# Altium footprint library con-phoenix-508.PCBLIB: 118 footprints (part 6 of 8)
Each footprint in its own frame and in the unit in brackets; x right, y up, seen from the top. Pads: shape width x height; smd on the part's side, far side on the other; paste and mask are expansions set on the pad; w line width, h text height; cw(c..) or ccw(c..) is an arc to the next point about the centre after c.
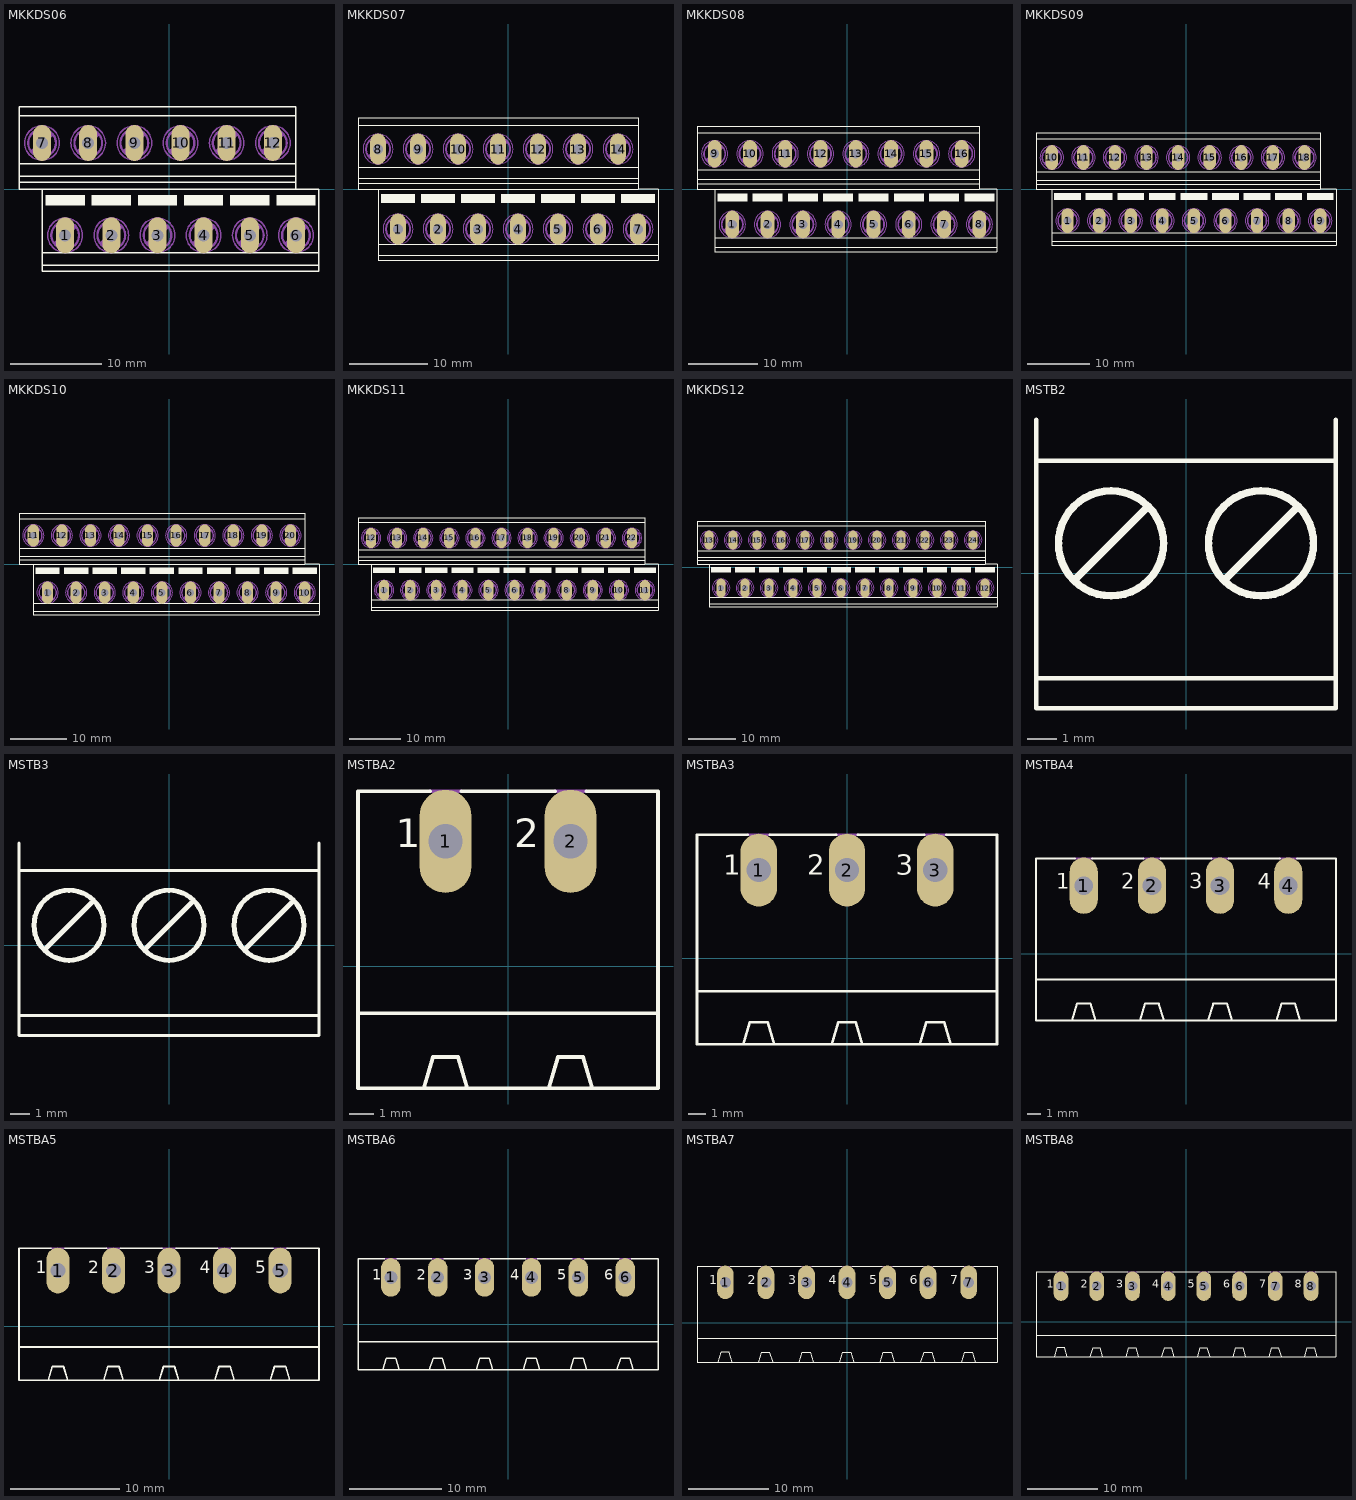
[diagram p5: the footprints below, top view; thin cyan lines are the x and y axes]

## MKKDS06 [mil]
pads (12):
  oval 78x156 hole 52: 1(-450,-200) 2(-250,-200) 3(-50,-200) 4(150,-200) 5(350,-200) 6(550,-200) 7(-550,200) 8(-350,200) 9(-150,200) 10(50,200) 11(250,200) 12(450,200)
Top Overlay:
  rectangle: -335,-70 -165,-25
  rectangle: -535,-70 -365,-25
  rectangle: 465,-70 635,-25
  rectangle: -135,-70 35,-25
  rectangle: 65,-70 235,-25
  rectangle: 265,-70 435,-25
  lines w6: -650,30 550,30 ; -650,30 -650,-0.63 -550,-0.63 ; -650,30 -650,55 ; -650,55 550,55 ; -650,55 -650,110 ; -650,110 550,110 ; -650,110 -650,318.66 ; -650,318.66 -650,356.18 550,356.18 550,318.66 ; -650,318.66 550,318.66 ; -550,-330.2 -550,-355.2 650,-355.2 650,-330.2 ; -550,-330.2 650,-330.2 ; -550,-330.2 -550,-275.2 ; -550,-275.2 650,-275.2 ; -550,-275.2 -550,-0.63 ; -550,-0.63 550,-0.63 ; 550,-0.63 650,-0.63 650,-275.2 ; 550,-0.63 550,30 ; 550,30 550,55 ; 550,55 550,110 ; 550,110 550,318.66 ; 650,-330.2 650,-275.2
Mechanical 16:
  circle w10: c-450,-200 r60
  circle w6: c-450,-200 r75
  circle w10: c-250,-200 r60
  circle w6: c-250,-200 r75
  circle w10: c-550,199.88 r60
  circle w6: c-550,199.88 r75
  circle w10: c-350,199.88 r60
  circle w6: c-350,199.88 r75
  circle w6: c450,199.88 r75
  circle w10: c450,199.88 r60
  circle w6: c550,-200 r75
  circle w10: c550,-200 r60
  circle w10: c-50,-200 r60
  circle w6: c-50,-200 r75
  circle w10: c-150,199.88 r60
  circle w6: c-150,199.88 r75
  circle w10: c150,-200 r60
  circle w6: c150,-200 r75
  circle w10: c50,199.88 r60
  circle w6: c50,199.88 r75
  circle w10: c350,-200 r60
  circle w6: c350,-200 r75
  circle w10: c250,199.88 r60
  circle w6: c250,199.88 r75
  lines w24: -587,163.88 -514,236.88 ; -487,-236 -414,-163 ; -387,163.88 -314,236.88 ; -287,-236 -214,-163 ; -187,163.88 -114,236.88 ; -87,-236 -14,-163 ; 13,163.88 86,236.88 ; 113,-236 186,-163 ; 213,163.88 286,236.88 ; 313,-236 386,-163 ; 413,163.88 486,236.88 ; 513,-236 586,-163
  text "1" at -400,-130 h61.02
  text "2" at -205,-130 h61.02
  text "7" at -515,275.63 h61.02
  text "8" at -318.94,275.63 h61.02
  text "6" at 595,-130 h61.02
  text "12" at 481.06,275.63 h61.02
  text "3" at -5,-130 h61.02
  text "9" at -118.94,275.63 h61.02
  text "4" at 195,-130 h61.02
  text "10" at 81.06,275.63 h61.02
  text "5" at 395,-130 h61.02
  text "11" at 281.06,275.63 h61.02

## MKKDS07 [mil]
pads (14):
  oval 78x156 hole 52: 1(-550,-200) 2(-350,-200) 3(-150,-200) 4(50,-200) 5(250,-200) 6(450,-200) 7(650,-200) 8(-650,200) 9(-450,200) 10(-250,200) 11(-50,200) 12(150,200) 13(350,200) 14(550,200)
Top Overlay:
  rectangle: -435,-70 -265,-25
  rectangle: -635,-70 -465,-25
  rectangle: 565,-70 735,-25
  rectangle: -235,-70 -65,-25
  rectangle: -35,-70 135,-25
  rectangle: 165,-70 335,-25
  rectangle: 365,-70 535,-25
  lines w6: -750,30 650,30 ; -750,30 -750,-0.63 -650,-0.63 ; -750,30 -750,55 ; -750,55 650,55 ; -750,55 -750,110 ; -750,110 650,110 ; -750,110 -750,318.66 ; -750,318.66 -750,356.18 650,356.18 650,318.66 ; -750,318.66 650,318.66 ; -650,-330.2 -650,-355.2 750,-355.2 750,-330.2 ; -650,-330.2 750,-330.2 ; -650,-330.2 -650,-275.2 ; -650,-275.2 750,-275.2 ; -650,-275.2 -650,-0.63 ; -650,-0.63 650,-0.63 ; 650,-0.63 750,-0.63 750,-275.2 ; 650,-0.63 650,30 ; 650,30 650,55 ; 650,55 650,110 ; 650,110 650,318.66 ; 750,-330.2 750,-275.2
Mechanical 16:
  circle w10: c-550,-200 r60
  circle w6: c-550,-200 r75
  circle w10: c-350,-200 r60
  circle w6: c-350,-200 r75
  circle w10: c-650,199.88 r60
  circle w6: c-650,199.88 r75
  circle w10: c-450,199.88 r60
  circle w6: c-450,199.88 r75
  circle w6: c550,199.88 r75
  circle w10: c550,199.88 r60
  circle w6: c650,-200 r75
  circle w10: c650,-200 r60
  circle w10: c-150,-200 r60
  circle w6: c-150,-200 r75
  circle w10: c-250,199.88 r60
  circle w6: c-250,199.88 r75
  circle w10: c50,-200 r60
  circle w6: c50,-200 r75
  circle w10: c-50,199.88 r60
  circle w6: c-50,199.88 r75
  circle w10: c250,-200 r60
  circle w6: c250,-200 r75
  circle w10: c150,199.88 r60
  circle w6: c150,199.88 r75
  circle w10: c450,-200 r60
  circle w6: c450,-200 r75
  circle w10: c350,199.88 r60
  circle w6: c350,199.88 r75
  lines w24: -687,163.88 -614,236.88 ; -587,-236 -514,-163 ; -487,163.88 -414,236.88 ; -387,-236 -314,-163 ; -287,163.88 -214,236.88 ; -187,-236 -114,-163 ; -87,163.88 -14,236.88 ; 13,-236 86,-163 ; 113,163.88 186,236.88 ; 213,-236 286,-163 ; 313,163.88 386,236.88 ; 413,-236 486,-163 ; 513,163.88 586,236.88 ; 613,-236 686,-163
  text "1" at -500,-130 h61.02
  text "2" at -305,-130 h61.02
  text "8" at -615,275.63 h61.02
  text "9" at -418.94,275.63 h61.02
  text "7" at 695,-130 h61.02
  text "14" at 581.06,275.63 h61.02
  text "3" at -105,-130 h61.02
  text "10" at -218.94,275.63 h61.02
  text "4" at 95,-130 h61.02
  text "11" at -18.94,275.63 h61.02
  text "5" at 295,-130 h61.02
  text "12" at 181.06,275.63 h61.02
  text "6" at 495,-130 h61.02
  text "13" at 381.06,275.63 h61.02

## MKKDS08 [mil]
pads (16):
  oval 78x156 hole 52: 1(-650,-200) 2(-450,-200) 3(-250,-200) 4(-50,-200) 5(150,-200) 6(350,-200) 7(550,-200) 8(750,-200) 9(-750,200) 10(-550,200) 11(-350,200) 12(-150,200) 13(50,200) 14(250,200) 15(450,200) 16(650,200)
Top Overlay:
  rectangle: -535,-70 -365,-25
  rectangle: -735,-70 -565,-25
  rectangle: 665,-70 835,-25
  rectangle: -335,-70 -165,-25
  rectangle: -135,-70 35,-25
  rectangle: 65,-70 235,-25
  rectangle: 265,-70 435,-25
  rectangle: 465,-70 635,-25
  lines w6: -850,30 750,30 ; -850,30 -850,-0.63 -750,-0.63 ; -850,30 -850,55 ; -850,55 750,55 ; -850,55 -850,110 ; -850,110 750,110 ; -850,110 -850,318.66 ; -850,318.66 -850,356.18 750,356.18 750,318.66 ; -850,318.66 750,318.66 ; -750,-330.2 -750,-355.2 850,-355.2 850,-330.2 ; -750,-330.2 850,-330.2 ; -750,-330.2 -750,-275.2 ; -750,-275.2 850,-275.2 ; -750,-275.2 -750,-0.63 ; -750,-0.63 750,-0.63 ; 750,-0.63 850,-0.63 850,-275.2 ; 750,-0.63 750,30 ; 750,30 750,55 ; 750,55 750,110 ; 750,110 750,318.66 ; 850,-330.2 850,-275.2
Mechanical 16:
  circle w10: c-650,-200 r60
  circle w6: c-650,-200 r75
  circle w10: c-450,-200 r60
  circle w6: c-450,-200 r75
  circle w10: c-750,199.88 r60
  circle w6: c-750,199.88 r75
  circle w10: c-550,199.88 r60
  circle w6: c-550,199.88 r75
  circle w6: c650,199.88 r75
  circle w10: c650,199.88 r60
  circle w6: c750,-200 r75
  circle w10: c750,-200 r60
  circle w10: c-250,-200 r60
  circle w6: c-250,-200 r75
  circle w10: c-350,199.88 r60
  circle w6: c-350,199.88 r75
  circle w10: c-50,-200 r60
  circle w6: c-50,-200 r75
  circle w10: c-150,199.88 r60
  circle w6: c-150,199.88 r75
  circle w10: c150,-200 r60
  circle w6: c150,-200 r75
  circle w10: c50,199.88 r60
  circle w6: c50,199.88 r75
  circle w10: c350,-200 r60
  circle w6: c350,-200 r75
  circle w10: c250,199.88 r60
  circle w6: c250,199.88 r75
  circle w10: c550,-200 r60
  circle w6: c550,-200 r75
  circle w10: c450,199.88 r60
  circle w6: c450,199.88 r75
  lines w24: -787,163.88 -714,236.88 ; -687,-236 -614,-163 ; -587,163.88 -514,236.88 ; -487,-236 -414,-163 ; -387,163.88 -314,236.88 ; -287,-236 -214,-163 ; -187,163.88 -114,236.88 ; -87,-236 -14,-163 ; 13,163.88 86,236.88 ; 113,-236 186,-163 ; 213,163.88 286,236.88 ; 313,-236 386,-163 ; 413,163.88 486,236.88 ; 513,-236 586,-163 ; 613,163.88 686,236.88 ; 713,-236 786,-163
  text "1" at -600,-130 h61.02
  text "2" at -405,-130 h61.02
  text "9" at -715,275.63 h61.02
  text "10" at -518.94,275.63 h61.02
  text "8" at 795,-130 h61.02
  text "16" at 681.06,275.63 h61.02
  text "3" at -205,-130 h61.02
  text "11" at -318.94,275.63 h61.02
  text "4" at -5,-130 h61.02
  text "12" at -118.94,275.63 h61.02
  text "5" at 195,-130 h61.02
  text "13" at 81.06,275.63 h61.02
  text "6" at 395,-130 h61.02
  text "14" at 281.06,275.63 h61.02
  text "7" at 595,-130 h61.02
  text "15" at 481.06,275.63 h61.02

## MKKDS09 [mil]
pads (18):
  oval 78x156 hole 52: 1(-750,-200) 2(-550,-200) 3(-350,-200) 4(-150,-200) 5(50,-200) 6(250,-200) 7(450,-200) 8(650,-200) 9(850,-200) 10(-850,200) 11(-650,200) 12(-450,200) 13(-250,200) 14(-50,200) 15(150,200) 16(350,200) 17(550,200) 18(750,200)
Top Overlay:
  rectangle: -635,-70 -465,-25
  rectangle: -835,-70 -665,-25
  rectangle: 765,-70 935,-25
  rectangle: -435,-70 -265,-25
  rectangle: -235,-70 -65,-25
  rectangle: -35,-70 135,-25
  rectangle: 165,-70 335,-25
  rectangle: 365,-70 535,-25
  rectangle: 565,-70 735,-25
  lines w6: -950,30 850,30 ; -950,30 -950,-0.63 -850,-0.63 ; -950,30 -950,55 ; -950,55 850,55 ; -950,55 -950,110 ; -950,110 850,110 ; -950,110 -950,318.66 ; -950,318.66 -950,356.18 850,356.18 850,318.66 ; -950,318.66 850,318.66 ; -850,-330.2 -850,-355.2 950,-355.2 950,-330.2 ; -850,-330.2 950,-330.2 ; -850,-330.2 -850,-275.2 ; -850,-275.2 950,-275.2 ; -850,-275.2 -850,-0.63 ; -850,-0.63 850,-0.63 ; 850,-0.63 950,-0.63 950,-275.2 ; 850,-0.63 850,30 ; 850,30 850,55 ; 850,55 850,110 ; 850,110 850,318.66 ; 950,-330.2 950,-275.2
Mechanical 16:
  circle w10: c-750,-200 r60
  circle w6: c-750,-200 r75
  circle w10: c-550,-200 r60
  circle w6: c-550,-200 r75
  circle w10: c-850,199.88 r60
  circle w6: c-850,199.88 r75
  circle w10: c-650,199.88 r60
  circle w6: c-650,199.88 r75
  circle w6: c750,199.88 r75
  circle w10: c750,199.88 r60
  circle w6: c850,-200 r75
  circle w10: c850,-200 r60
  circle w10: c-350,-200 r60
  circle w6: c-350,-200 r75
  circle w10: c-450,199.88 r60
  circle w6: c-450,199.88 r75
  circle w10: c-150,-200 r60
  circle w6: c-150,-200 r75
  circle w10: c-250,199.88 r60
  circle w6: c-250,199.88 r75
  circle w10: c50,-200 r60
  circle w6: c50,-200 r75
  circle w10: c-50,199.88 r60
  circle w6: c-50,199.88 r75
  circle w10: c250,-200 r60
  circle w6: c250,-200 r75
  circle w10: c150,199.88 r60
  circle w6: c150,199.88 r75
  circle w10: c450,-200 r60
  circle w6: c450,-200 r75
  circle w10: c350,199.88 r60
  circle w6: c350,199.88 r75
  circle w10: c650,-200 r60
  circle w6: c650,-200 r75
  circle w10: c550,199.88 r60
  circle w6: c550,199.88 r75
  lines w24: -887,163.88 -814,236.88 ; -787,-236 -714,-163 ; -687,163.88 -614,236.88 ; -587,-236 -514,-163 ; -487,163.88 -414,236.88 ; -387,-236 -314,-163 ; -287,163.88 -214,236.88 ; -187,-236 -114,-163 ; -87,163.88 -14,236.88 ; 13,-236 86,-163 ; 113,163.88 186,236.88 ; 213,-236 286,-163 ; 313,163.88 386,236.88 ; 413,-236 486,-163 ; 513,163.88 586,236.88 ; 613,-236 686,-163 ; 713,163.88 786,236.88 ; 813,-236 886,-163
  text "1" at -700,-130 h61.02
  text "2" at -505,-130 h61.02
  text "10" at -815,275.63 h61.02
  text "11" at -618.94,275.63 h61.02
  text "9" at 895,-130 h61.02
  text "18" at 781.06,275.63 h61.02
  text "3" at -305,-130 h61.02
  text "12" at -418.94,275.63 h61.02
  text "4" at -105,-130 h61.02
  text "13" at -218.94,275.63 h61.02
  text "5" at 95,-130 h61.02
  text "14" at -18.94,275.63 h61.02
  text "6" at 295,-130 h61.02
  text "15" at 181.06,275.63 h61.02
  text "7" at 495,-130 h61.02
  text "16" at 381.06,275.63 h61.02
  text "8" at 695,-130 h61.02
  text "17" at 581.06,275.63 h61.02

## MKKDS10 [mil]
pads (20):
  oval 78x156 hole 52: 1(-850,-200) 2(-650,-200) 3(-450,-200) 4(-250,-200) 5(-50,-200) 6(150,-200) 7(350,-200) 8(550,-200) 9(750,-200) 10(950,-200) 11(-950,200) 12(-750,200) 13(-550,200) 14(-350,200) 15(-150,200) 16(50,200) 17(250,200) 18(450,200) 19(650,200) 20(850,200)
Top Overlay:
  rectangle: -735,-70 -565,-25
  rectangle: -935,-70 -765,-25
  rectangle: 865,-70 1035,-25
  rectangle: -535,-70 -365,-25
  rectangle: -335,-70 -165,-25
  rectangle: -135,-70 35,-25
  rectangle: 65,-70 235,-25
  rectangle: 265,-70 435,-25
  rectangle: 465,-70 635,-25
  rectangle: 665,-70 835,-25
  lines w6: -1050,30 950,30 ; -1050,30 -1050,-0.63 -950,-0.63 ; -1050,30 -1050,55 ; -1050,55 950,55 ; -1050,55 -1050,110 ; -1050,110 950,110 ; -1050,110 -1050,318.66 ; -1050,318.66 -1050,356.18 950,356.18 950,318.66 ; -1050,318.66 950,318.66 ; -950,-330.2 -950,-355.2 1050,-355.2 1050,-330.2 ; -950,-330.2 1050,-330.2 ; -950,-330.2 -950,-275.2 ; -950,-275.2 1050,-275.2 ; -950,-275.2 -950,-0.63 ; -950,-0.63 950,-0.63 ; 950,-0.63 1050,-0.63 1050,-275.2 ; 950,-0.63 950,30 ; 950,30 950,55 ; 950,55 950,110 ; 950,110 950,318.66 ; 1050,-330.2 1050,-275.2
Mechanical 16:
  circle w10: c-850,-200 r60
  circle w6: c-850,-200 r75
  circle w10: c-650,-200 r60
  circle w6: c-650,-200 r75
  circle w10: c-950,199.88 r60
  circle w6: c-950,199.88 r75
  circle w10: c-750,199.88 r60
  circle w6: c-750,199.88 r75
  circle w6: c850,199.88 r75
  circle w10: c850,199.88 r60
  circle w6: c950,-200 r75
  circle w10: c950,-200 r60
  circle w10: c-450,-200 r60
  circle w6: c-450,-200 r75
  circle w10: c-550,199.88 r60
  circle w6: c-550,199.88 r75
  circle w10: c-250,-200 r60
  circle w6: c-250,-200 r75
  circle w10: c-350,199.88 r60
  circle w6: c-350,199.88 r75
  circle w10: c-50,-200 r60
  circle w6: c-50,-200 r75
  circle w10: c-150,199.88 r60
  circle w6: c-150,199.88 r75
  circle w10: c150,-200 r60
  circle w6: c150,-200 r75
  circle w10: c50,199.88 r60
  circle w6: c50,199.88 r75
  circle w10: c350,-200 r60
  circle w6: c350,-200 r75
  circle w10: c250,199.88 r60
  circle w6: c250,199.88 r75
  circle w10: c550,-200 r60
  circle w6: c550,-200 r75
  circle w10: c450,199.88 r60
  circle w6: c450,199.88 r75
  circle w10: c750,-200 r60
  circle w6: c750,-200 r75
  circle w10: c650,199.88 r60
  circle w6: c650,199.88 r75
  lines w24: -987,163.88 -914,236.88 ; -887,-236 -814,-163 ; -787,163.88 -714,236.88 ; -687,-236 -614,-163 ; -587,163.88 -514,236.88 ; -487,-236 -414,-163 ; -387,163.88 -314,236.88 ; -287,-236 -214,-163 ; -187,163.88 -114,236.88 ; -87,-236 -14,-163 ; 13,163.88 86,236.88 ; 113,-236 186,-163 ; 213,163.88 286,236.88 ; 313,-236 386,-163 ; 413,163.88 486,236.88 ; 513,-236 586,-163 ; 613,163.88 686,236.88 ; 713,-236 786,-163 ; 813,163.88 886,236.88 ; 913,-236 986,-163
  text "1" at -800,-130 h61.02
  text "2" at -605,-130 h61.02
  text "11" at -915,275.63 h61.02
  text "12" at -718.94,275.63 h61.02
  text "10" at 995,-130 h61.02
  text "20" at 881.06,275.63 h61.02
  text "3" at -405,-130 h61.02
  text "13" at -518.94,275.63 h61.02
  text "4" at -205,-130 h61.02
  text "14" at -318.94,275.63 h61.02
  text "5" at -5,-130 h61.02
  text "15" at -118.94,275.63 h61.02
  text "6" at 195,-130 h61.02
  text "16" at 81.06,275.63 h61.02
  text "7" at 395,-130 h61.02
  text "17" at 281.06,275.63 h61.02
  text "8" at 595,-130 h61.02
  text "18" at 481.06,275.63 h61.02
  text "9" at 795,-130 h61.02
  text "19" at 681.06,275.63 h61.02

## MKKDS11 [mil]
pads (22):
  oval 78x156 hole 52: 1(-950,-200) 2(-750,-200) 3(-550,-200) 4(-350,-200) 5(-150,-200) 6(50,-200) 7(250,-200) 8(450,-200) 9(650,-200) 10(850,-200) 11(1050,-200) 12(-1050,200) 13(-850,200) 14(-650,200) 15(-450,200) 16(-250,200) 17(-50,200) 18(150,200) 19(350,200) 20(550,200) 21(750,200) 22(950,200)
Top Overlay:
  rectangle: -835,-70 -665,-25
  rectangle: -1035,-70 -865,-25
  rectangle: 965,-70 1135,-25
  rectangle: -635,-70 -465,-25
  rectangle: -435,-70 -265,-25
  rectangle: -235,-70 -65,-25
  rectangle: -35,-70 135,-25
  rectangle: 165,-70 335,-25
  rectangle: 365,-70 535,-25
  rectangle: 565,-70 735,-25
  rectangle: 765,-70 935,-25
  lines w6: -1150,30 1050,30 ; -1150,30 -1150,-0.63 -1050,-0.63 ; -1150,30 -1150,55 ; -1150,55 1050,55 ; -1150,55 -1150,110 ; -1150,110 1050,110 ; -1150,110 -1150,318.66 ; -1150,318.66 -1150,356.18 1050,356.18 1050,318.66 ; -1150,318.66 1050,318.66 ; -1050,-330.2 -1050,-355.2 1150,-355.2 1150,-330.2 ; -1050,-330.2 1150,-330.2 ; -1050,-330.2 -1050,-275.2 ; -1050,-275.2 1150,-275.2 ; -1050,-275.2 -1050,-0.63 ; -1050,-0.63 1050,-0.63 ; 1050,-0.63 1150,-0.63 1150,-275.2 ; 1050,-0.63 1050,30 ; 1050,30 1050,55 ; 1050,55 1050,110 ; 1050,110 1050,318.66 ; 1150,-330.2 1150,-275.2
Mechanical 16:
  circle w10: c-950,-200 r60
  circle w6: c-950,-200 r75
  circle w10: c-750,-200 r60
  circle w6: c-750,-200 r75
  circle w10: c-1050,199.88 r60
  circle w6: c-1050,199.88 r75
  circle w10: c-850,199.88 r60
  circle w6: c-850,199.88 r75
  circle w6: c950,199.88 r75
  circle w10: c950,199.88 r60
  circle w6: c1050,-200 r75
  circle w10: c1050,-200 r60
  circle w10: c-550,-200 r60
  circle w6: c-550,-200 r75
  circle w10: c-650,199.88 r60
  circle w6: c-650,199.88 r75
  circle w10: c-350,-200 r60
  circle w6: c-350,-200 r75
  circle w10: c-450,199.88 r60
  circle w6: c-450,199.88 r75
  circle w10: c-150,-200 r60
  circle w6: c-150,-200 r75
  circle w10: c-250,199.88 r60
  circle w6: c-250,199.88 r75
  circle w10: c50,-200 r60
  circle w6: c50,-200 r75
  circle w10: c-50,199.88 r60
  circle w6: c-50,199.88 r75
  circle w10: c250,-200 r60
  circle w6: c250,-200 r75
  circle w10: c150,199.88 r60
  circle w6: c150,199.88 r75
  circle w10: c450,-200 r60
  circle w6: c450,-200 r75
  circle w10: c350,199.88 r60
  circle w6: c350,199.88 r75
  circle w10: c650,-200 r60
  circle w6: c650,-200 r75
  circle w10: c550,199.88 r60
  circle w6: c550,199.88 r75
  circle w10: c850,-200 r60
  circle w6: c850,-200 r75
  circle w10: c750,199.88 r60
  circle w6: c750,199.88 r75
  lines w24: -1087,163.88 -1014,236.88 ; -987,-236 -914,-163 ; -887,163.88 -814,236.88 ; -787,-236 -714,-163 ; -687,163.88 -614,236.88 ; -587,-236 -514,-163 ; -487,163.88 -414,236.88 ; -387,-236 -314,-163 ; -287,163.88 -214,236.88 ; -187,-236 -114,-163 ; -87,163.88 -14,236.88 ; 13,-236 86,-163 ; 113,163.88 186,236.88 ; 213,-236 286,-163 ; 313,163.88 386,236.88 ; 413,-236 486,-163 ; 513,163.88 586,236.88 ; 613,-236 686,-163 ; 713,163.88 786,236.88 ; 813,-236 886,-163 ; 913,163.88 986,236.88 ; 1013,-236 1086,-163
  text "1" at -900,-130 h61.02
  text "2" at -705,-130 h61.02
  text "12" at -1015,275.63 h61.02
  text "13" at -818.94,275.63 h61.02
  text "11" at 1095,-130 h61.02
  text "22" at 981.06,275.63 h61.02
  text "3" at -505,-130 h61.02
  text "14" at -618.94,275.63 h61.02
  text "4" at -305,-130 h61.02
  text "15" at -418.94,275.63 h61.02
  text "5" at -105,-130 h61.02
  text "16" at -218.94,275.63 h61.02
  text "6" at 95,-130 h61.02
  text "17" at -18.94,275.63 h61.02
  text "7" at 295,-130 h61.02
  text "18" at 181.06,275.63 h61.02
  text "8" at 495,-130 h61.02
  text "19" at 381.06,275.63 h61.02
  text "9" at 695,-130 h61.02
  text "20" at 581.06,275.63 h61.02
  text "10" at 895,-130 h61.02
  text "21" at 781.06,275.63 h61.02

## MKKDS12 [mil]
pads (24):
  oval 78x156 hole 52: 1(-1050,-175) 2(-850,-175) 3(-650,-175) 4(-450,-175) 5(-250,-175) 6(-50,-175) 7(150,-175) 8(350,-175) 9(550,-175) 10(750,-175) 11(950,-175) 12(1150,-175) 13(-1150,225) 14(-950,225) 15(-750,225) 16(-550,225) 17(-350,225) 18(-150,225) 19(50,225) 20(250,225) 21(450,225) 22(650,225) 23(850,225) 24(1050,225)
Top Overlay:
  rectangle: -935,-45 -765,0
  rectangle: -1135,-45 -965,0
  rectangle: 1065,-45 1235,0
  rectangle: -735,-45 -565,0
  rectangle: -535,-45 -365,0
  rectangle: -335,-45 -165,0
  rectangle: -135,-45 35,0
  rectangle: 65,-45 235,0
  rectangle: 265,-45 435,0
  rectangle: 465,-45 635,0
  rectangle: 665,-45 835,0
  rectangle: 865,-45 1035,0
  lines w6: -1250,55 1150,55 ; -1250,55 -1250,24.37 -1150,24.37 ; -1250,55 -1250,80 ; -1250,80 1150,80 ; -1250,80 -1250,135 ; -1250,135 1150,135 ; -1250,135 -1250,343.66 ; -1250,343.66 -1250,381.18 1150,381.18 1150,343.66 ; -1250,343.66 1150,343.66 ; -1150,-305.2 -1150,-330.2 1250,-330.2 1250,-305.2 ; -1150,-305.2 1250,-305.2 ; -1150,-305.2 -1150,-250.2 ; -1150,-250.2 1250,-250.2 ; -1150,-250.2 -1150,24.37 ; -1150,24.37 1150,24.37 ; 1150,24.37 1250,24.37 1250,-250.2 ; 1150,24.37 1150,55 ; 1150,55 1150,80 ; 1150,80 1150,135 ; 1150,135 1150,343.66 ; 1250,-305.2 1250,-250.2
Mechanical 16:
  circle w10: c-1050,-175 r60
  circle w6: c-1050,-175 r75
  circle w10: c-850,-175 r60
  circle w6: c-850,-175 r75
  circle w10: c-1150,224.88 r60
  circle w6: c-1150,224.88 r75
  circle w10: c-950,224.88 r60
  circle w6: c-950,224.88 r75
  circle w6: c1050,224.88 r75
  circle w10: c1050,224.88 r60
  circle w6: c1150,-175 r75
  circle w10: c1150,-175 r60
  circle w10: c-650,-175 r60
  circle w6: c-650,-175 r75
  circle w10: c-750,224.88 r60
  circle w6: c-750,224.88 r75
  circle w10: c-450,-175 r60
  circle w6: c-450,-175 r75
  circle w10: c-550,224.88 r60
  circle w6: c-550,224.88 r75
  circle w10: c-250,-175 r60
  circle w6: c-250,-175 r75
  circle w10: c-350,224.88 r60
  circle w6: c-350,224.88 r75
  circle w10: c-50,-175 r60
  circle w6: c-50,-175 r75
  circle w10: c-150,224.88 r60
  circle w6: c-150,224.88 r75
  circle w10: c150,-175 r60
  circle w6: c150,-175 r75
  circle w10: c50,224.88 r60
  circle w6: c50,224.88 r75
  circle w10: c350,-175 r60
  circle w6: c350,-175 r75
  circle w10: c250,224.88 r60
  circle w6: c250,224.88 r75
  circle w10: c550,-175 r60
  circle w6: c550,-175 r75
  circle w10: c450,224.88 r60
  circle w6: c450,224.88 r75
  circle w10: c750,-175 r60
  circle w6: c750,-175 r75
  circle w10: c650,224.88 r60
  circle w6: c650,224.88 r75
  circle w10: c950,-175 r60
  circle w6: c950,-175 r75
  circle w10: c850,224.88 r60
  circle w6: c850,224.88 r75
  lines w24: -1187,188.88 -1114,261.88 ; -1087,-211 -1014,-138 ; -987,188.88 -914,261.88 ; -887,-211 -814,-138 ; -787,188.88 -714,261.88 ; -687,-211 -614,-138 ; -587,188.88 -514,261.88 ; -487,-211 -414,-138 ; -387,188.88 -314,261.88 ; -287,-211 -214,-138 ; -187,188.88 -114,261.88 ; -87,-211 -14,-138 ; 13,188.88 86,261.88 ; 113,-211 186,-138 ; 213,188.88 286,261.88 ; 313,-211 386,-138 ; 413,188.88 486,261.88 ; 513,-211 586,-138 ; 613,188.88 686,261.88 ; 713,-211 786,-138 ; 813,188.88 886,261.88 ; 913,-211 986,-138 ; 1013,188.88 1086,261.88 ; 1113,-211 1186,-138
  text "1" at -1000,-105 h61.02
  text "2" at -805,-105 h61.02
  text "13" at -1115,300.63 h61.02
  text "14" at -918.94,300.63 h61.02
  text "12" at 1195,-105 h61.02
  text "24" at 1081.06,300.63 h61.02
  text "3" at -605,-105 h61.02
  text "15" at -718.94,300.63 h61.02
  text "4" at -405,-105 h61.02
  text "16" at -518.94,300.63 h61.02
  text "5" at -205,-105 h61.02
  text "17" at -318.94,300.63 h61.02
  text "6" at -5,-105 h61.02
  text "18" at -118.94,300.63 h61.02
  text "7" at 195,-105 h61.02
  text "19" at 81.06,300.63 h61.02
  text "8" at 395,-105 h61.02
  text "20" at 281.06,300.63 h61.02
  text "9" at 595,-105 h61.02
  text "21" at 481.06,300.63 h61.02
  text "10" at 795,-105 h61.02
  text "22" at 681.06,300.63 h61.02
  text "11" at 995,-105 h61.02
  text "23" at 881.06,300.63 h61.02

## MSTB2 [mil]
Top Overlay:
  circle w10: c100,40 r70
  circle w10: c-100,40 r70
  lines w6: -200,205 -200,150 ; 200,205 200,150 ; -200,-140 -200,-180 200,-180 200,-140 ; -200,-140 200,-140 ; -200,-140 -200,150 ; -200,150 200,150 ; 200,-140 200,150
  lines w10: -145,-5 -55,85 ; 55,-5 145,85

## MSTB3 [mil]
Top Overlay:
  circle w10: c0,40 r70
  circle w10: c-200,40 r70
  circle w10: c200,40 r70
  lines w6: -300,205 -300,150 ; 300,205 300,150 ; -300,-140 -300,-180 300,-180 300,-140 ; -300,-140 300,-140 ; -300,-140 -300,150 ; -300,150 300,150 ; 300,-140 300,150
  lines w10: -245,-5 -155,85 ; -45,-5 45,85 ; 155,-5 245,85

## MSTBA2 [mil]
pads (2):
  oval 82.5x165 hole 55: 1(-100,200) 2(100,200)
Top Overlay:
  lines w6: -125,280 -240,280 -240,-75 ; -75,280 75,280 ; 125,280 240,280 240,-75 ; -240,-75 240,-75 ; -240,-75 -240,-195 -135,-195 ; -135,-195 -120,-145 -80,-145 -65,-195 ; -135,-195 -65,-195 ; -65,-195 65,-195 ; 65,-195 80,-145 120,-145 135,-195 ; 65,-195 135,-195 ; 135,-195 240,-195 240,-75
  text "1" at -180,175 h77.5
  text "2" at 10,175 h77.5
Mechanical 16:
  lines w6: -125,280 -75,280 ; 75,280 125,280

## MSTBA3 [mil]
pads (3):
  oval 82.5x165 hole 55: 1(-200,200) 2(0,200) 3(200,200)
Top Overlay:
  lines w6: -225,280 -340,280 -340,-75 ; -175,280 -25,280 ; 25,280 175,280 ; 225,280 340,280 340,-75 ; -340,-75 340,-75 ; -340,-75 -340,-195 -235,-195 ; -235,-195 -220,-145 -180,-145 -165,-195 ; -235,-195 -165,-195 ; -165,-195 -35,-195 ; -35,-195 -20,-145 20,-145 35,-195 ; -35,-195 35,-195 ; 35,-195 165,-195 ; 165,-195 235,-195 ; 165,-195 180,-145 220,-145 235,-195 ; 235,-195 340,-195 340,-75
  text "1" at -280,175 h77.5
  text "2" at -90,175 h77.5
  text "3" at 110,175 h77.5
Mechanical 16:
  lines w6: -225,280 -175,280 ; -25,280 25,280 ; 175,280 225,280

## MSTBA4 [mil]
pads (4):
  oval 82.5x165 hole 55: 1(-300,200) 2(-100,200) 3(100,200) 4(300,200)
Top Overlay:
  lines w6: -325,280 -440,280 -440,-75 ; -275,280 -125,280 ; -75,280 75,280 ; 125,280 275,280 ; 325,280 440,280 440,-75 ; -440,-75 440,-75 ; -440,-75 -440,-195 -335,-195 ; -335,-195 -320,-145 -280,-145 -265,-195 ; -335,-195 -265,-195 ; -265,-195 -135,-195 ; -135,-195 -120,-145 -80,-145 -65,-195 ; -135,-195 -65,-195 ; -65,-195 65,-195 ; 65,-195 135,-195 ; 65,-195 80,-145 120,-145 135,-195 ; 135,-195 265,-195 ; 265,-195 335,-195 ; 265,-195 280,-145 320,-145 335,-195 ; 335,-195 440,-195 440,-75
  text "1" at -380,175 h77.5
  text "2" at -190,175 h77.5
  text "3" at 10,175 h77.5
  text "4" at 210,175 h77.5
Mechanical 16:
  lines w6: -325,280 -275,280 ; -125,280 -75,280 ; 75,280 125,280 ; 275,280 325,280

## MSTBA5 [mil]
pads (5):
  oval 82.5x165 hole 55: 1(-400,200) 2(-200,200) 3(0,200) 4(200,200) 5(400,200)
Top Overlay:
  lines w6: -425,280 -540,280 -540,-75 ; -375,280 -225,280 ; -175,280 -25,280 ; 25,280 175,280 ; 225,280 375,280 ; 425,280 540,280 540,-75 ; -540,-75 540,-75 ; -540,-75 -540,-195 -435,-195 ; -435,-195 -420,-145 -380,-145 -365,-195 ; -435,-195 -365,-195 ; -365,-195 -235,-195 ; -235,-195 -220,-145 -180,-145 -165,-195 ; -235,-195 -165,-195 ; -165,-195 -35,-195 ; -35,-195 35,-195 ; -35,-195 -20,-145 20,-145 35,-195 ; 35,-195 165,-195 ; 165,-195 235,-195 ; 165,-195 180,-145 220,-145 235,-195 ; 235,-195 365,-195 ; 365,-195 435,-195 ; 365,-195 380,-145 420,-145 435,-195 ; 435,-195 540,-195 540,-75
  text "1" at -480,175 h77.5
  text "2" at -290,175 h77.5
  text "3" at -90,175 h77.5
  text "4" at 110,175 h77.5
  text "5" at 310,175 h77.5
Mechanical 16:
  lines w6: -425,280 -375,280 ; -225,280 -175,280 ; -25,280 25,280 ; 175,280 225,280 ; 375,280 425,280

## MSTBA6 [mil]
pads (6):
  oval 82.5x165 hole 55: 1(-500,200) 2(-300,200) 3(-100,200) 4(100,200) 5(300,200) 6(500,200)
Top Overlay:
  lines w6: -525,280 -640,280 -640,-75 ; -475,280 -325,280 ; -275,280 -125,280 ; -75,280 75,280 ; 125,280 275,280 ; 325,280 475,280 ; 525,280 640,280 640,-75 ; -640,-75 640,-75 ; -640,-75 -640,-195 -535,-195 ; -535,-195 -520,-145 -480,-145 -465,-195 ; -535,-195 -465,-195 ; -465,-195 -335,-195 ; -335,-195 -320,-145 -280,-145 -265,-195 ; -335,-195 -265,-195 ; -265,-195 -135,-195 ; -135,-195 -65,-195 ; -135,-195 -120,-145 -80,-145 -65,-195 ; -65,-195 65,-195 ; 65,-195 135,-195 ; 65,-195 80,-145 120,-145 135,-195 ; 135,-195 265,-195 ; 265,-195 335,-195 ; 265,-195 280,-145 320,-145 335,-195 ; 335,-195 465,-195 ; 465,-195 535,-195 ; 465,-195 480,-145 520,-145 535,-195 ; 535,-195 640,-195 640,-75
  text "1" at -580,175 h77.5
  text "2" at -390,175 h77.5
  text "3" at -190,175 h77.5
  text "4" at 10,175 h77.5
  text "5" at 210,175 h77.5
  text "6" at 410,175 h77.5
Mechanical 16:
  lines w6: -525,280 -475,280 ; -325,280 -275,280 ; -125,280 -75,280 ; 75,280 125,280 ; 275,280 325,280 ; 475,280 525,280

## MSTBA7 [mil]
pads (7):
  oval 82.5x165 hole 55: 1(-600,200) 2(-400,200) 3(-200,200) 4(0,200) 5(200,200) 6(400,200) 7(600,200)
Top Overlay:
  lines w6: -625,280 -740,280 -740,-75 ; -575,280 -425,280 ; -375,280 -225,280 ; -175,280 -25,280 ; 25,280 175,280 ; 225,280 375,280 ; 425,280 575,280 ; 625,280 740,280 740,-75 ; -740,-75 740,-75 ; -740,-75 -740,-195 -635,-195 ; -635,-195 -620,-145 -580,-145 -565,-195 ; -635,-195 -565,-195 ; -565,-195 -435,-195 ; -435,-195 -420,-145 -380,-145 -365,-195 ; -435,-195 -365,-195 ; -365,-195 -235,-195 ; -235,-195 -165,-195 ; -235,-195 -220,-145 -180,-145 -165,-195 ; -165,-195 -35,-195 ; -35,-195 35,-195 ; -35,-195 -20,-145 20,-145 35,-195 ; 35,-195 165,-195 ; 165,-195 235,-195 ; 165,-195 180,-145 220,-145 235,-195 ; 235,-195 365,-195 ; 365,-195 435,-195 ; 365,-195 380,-145 420,-145 435,-195 ; 435,-195 565,-195 ; 565,-195 635,-195 ; 565,-195 580,-145 620,-145 635,-195 ; 635,-195 740,-195 740,-75
  text "1" at -680,175 h77.5
  text "2" at -490,175 h77.5
  text "3" at -290,175 h77.5
  text "4" at -90,175 h77.5
  text "5" at 110,175 h77.5
  text "6" at 310,175 h77.5
  text "7" at 510,175 h77.5
Mechanical 16:
  lines w6: -625,280 -575,280 ; -425,280 -375,280 ; -225,280 -175,280 ; -25,280 25,280 ; 175,280 225,280 ; 375,280 425,280 ; 575,280 625,280

## MSTBA8 [mil]
pads (8):
  oval 82.5x165 hole 55: 1(-700,200) 2(-500,200) 3(-300,200) 4(-100,200) 5(100,200) 6(300,200) 7(500,200) 8(700,200)
Top Overlay:
  lines w6: -725,280 -840,280 -840,-75 ; -675,280 -525,280 ; -475,280 -325,280 ; -275,280 -125,280 ; -75,280 75,280 ; 125,280 275,280 ; 325,280 475,280 ; 525,280 675,280 ; 725,280 840,280 840,-75 ; -840,-75 840,-75 ; -840,-75 -840,-195 -735,-195 ; -735,-195 -720,-145 -680,-145 -665,-195 ; -735,-195 -665,-195 ; -665,-195 -535,-195 ; -535,-195 -520,-145 -480,-145 -465,-195 ; -535,-195 -465,-195 ; -465,-195 -335,-195 ; -335,-195 -265,-195 ; -335,-195 -320,-145 -280,-145 -265,-195 ; -265,-195 -135,-195 ; -135,-195 -65,-195 ; -135,-195 -120,-145 -80,-145 -65,-195 ; -65,-195 65,-195 ; 65,-195 135,-195 ; 65,-195 80,-145 120,-145 135,-195 ; 135,-195 265,-195 ; 265,-195 335,-195 ; 265,-195 280,-145 320,-145 335,-195 ; 335,-195 465,-195 ; 465,-195 535,-195 ; 465,-195 480,-145 520,-145 535,-195 ; 535,-195 665,-195 ; 665,-195 735,-195 ; 665,-195 680,-145 720,-145 735,-195 ; 735,-195 840,-195 840,-75
  text "1" at -780,175 h77.5
  text "2" at -590,175 h77.5
  text "3" at -390,175 h77.5
  text "4" at -190,175 h77.5
  text "5" at 10,175 h77.5
  text "6" at 210,175 h77.5
  text "7" at 410,175 h77.5
  text "8" at 610,175 h77.5
Mechanical 16:
  lines w6: -725,280 -675,280 ; -525,280 -475,280 ; -325,280 -275,280 ; -125,280 -75,280 ; 75,280 125,280 ; 275,280 325,280 ; 475,280 525,280 ; 675,280 725,280